# EAGLE library part L1110 (library linkup-l1110)
Link-Up L1110 This part interfaces PCMCIA and CompactFlash cards to Intel StrongARM SA1100/SA1110 CPUs.
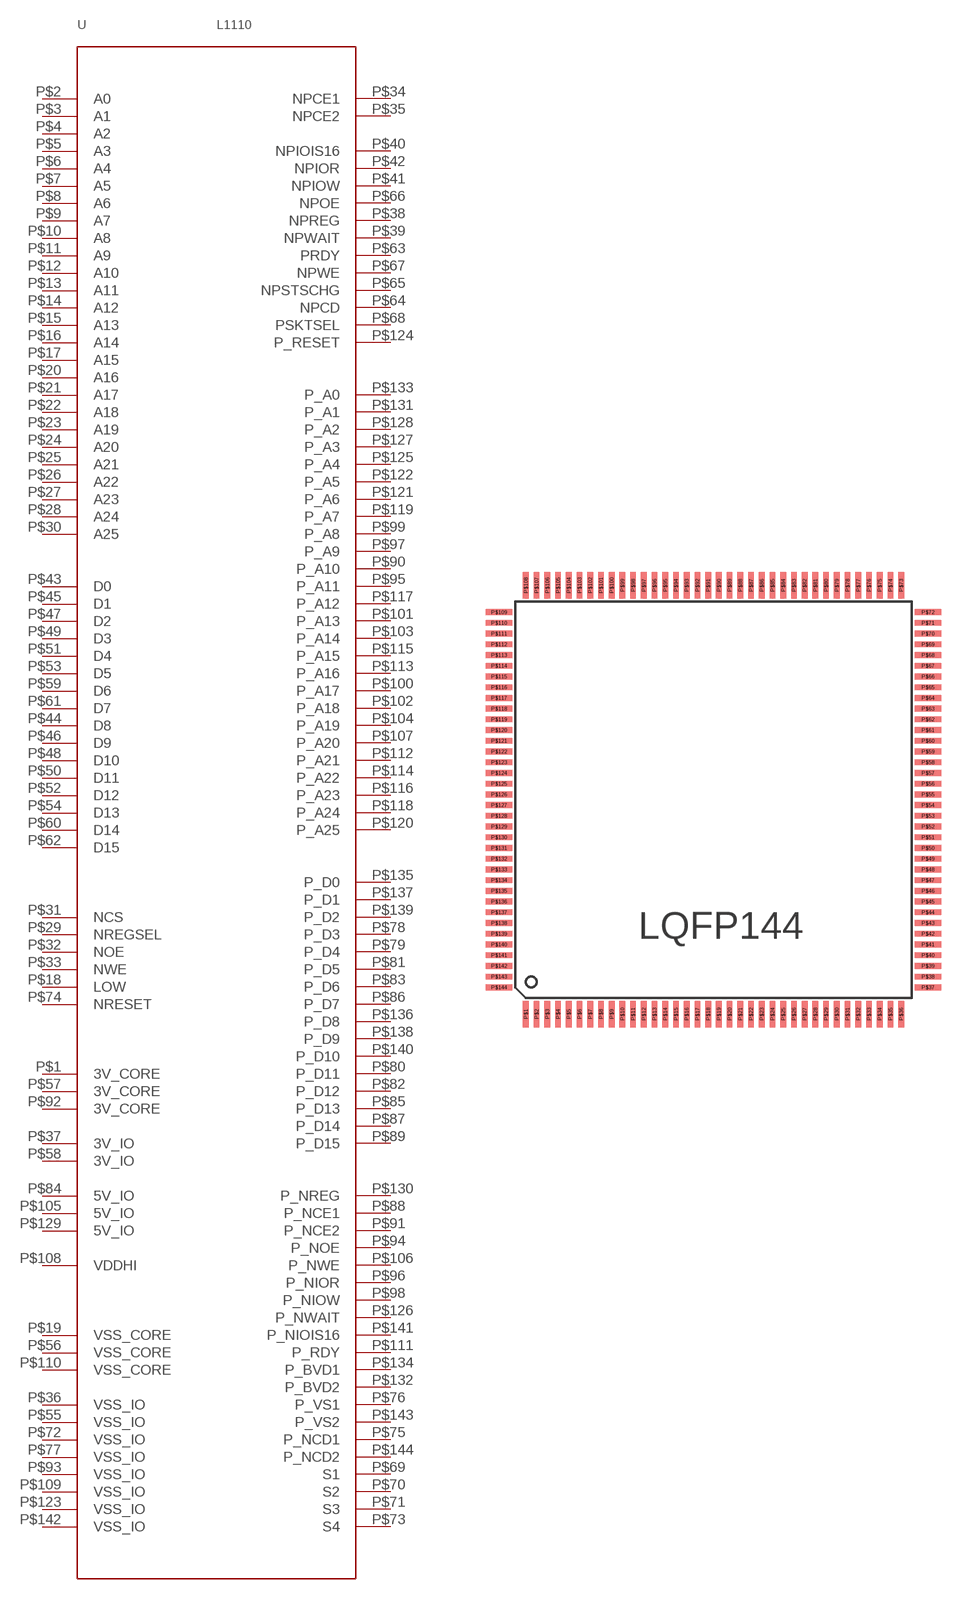
[diagram p0: symbol with the pads of LQFP144; footprint LQFP144]

Designator prefix -

## L1110LQFP144  [LQFP144]
P$1  3V_CORE  pwr
P$2  A0  in
P$3  A1  in
P$4  A2  in
P$5  A3  in
P$6  A4  in
P$7  A5  in
P$8  A6  in
P$9  A7  in
P$10  A8  in
P$11  A9  in
P$12  A10  in
P$13  A11  in
P$14  A12  in
P$15  A13  in
P$16  A14  in
P$17  A15  in
P$18  LOW  in
P$19  VSS_CORE  pwr
P$20  A16  in
P$21  A17  in
P$22  A18  in
P$23  A19  in
P$24  A20  in
P$25  A21  in
P$26  A22  in
P$27  A23  in
P$28  A24  in
P$29  NREGSEL  in
P$30  A25  in
P$31  NCS  in
P$32  NOE  in
P$33  NWE  in
P$34  NPCE1  in
P$35  NPCE2  in
P$36  VSS_IO  pwr
P$37  3V_IO  pwr
P$38  NPREG  in
P$39  NPWAIT  out
P$40  NPIOIS16  out
P$41  NPIOW  in
P$42  NPIOR  in
P$43  D0
P$44  D8
P$45  D1
P$46  D9
P$47  D2
P$48  D10
P$49  D3
P$50  D11
P$51  D4
P$52  D12
P$53  D5
P$54  D13
P$55  VSS_IO  pwr
P$56  VSS_CORE  pwr
P$57  3V_CORE  pwr
P$58  3V_IO  pwr
P$59  D6
P$60  D14
P$61  D7
P$62  D15
P$63  PRDY  out
P$64  NPCD  out
P$65  NPSTSCHG  out
P$66  NPOE  in
P$67  NPWE  in
P$68  PSKTSEL  in
P$69  S1  out
P$70  S2  out
P$71  S3  out
P$72  VSS_IO  pwr
P$73  S4  out
P$74  NRESET  in
P$75  P_NCD1  in
P$76  P_VS1  in
P$77  VSS_IO  pwr
P$78  P_D3
P$79  P_D4
P$80  P_D11
P$81  P_D5
P$82  P_D12
P$83  P_D6
P$84  5V_IO  pwr
P$85  P_D13
P$86  P_D7
P$87  P_D14
P$88  P_NCE1  out
P$89  P_D15
P$90  P_A10  out
P$91  P_NCE2  out
P$92  3V_CORE  pwr
P$93  VSS_IO  pwr
P$94  P_NOE  out
P$95  P_A11  out
P$96  P_NIOR  out
P$97  P_A9  out
P$98  P_NIOW  out
P$99  P_A8  out
P$100  P_A17  out
P$101  P_A13  out
P$102  P_A18  out
P$103  P_A14  out
P$104  P_A19  out
P$105  5V_IO  pwr
P$106  P_NWE  out
P$107  P_A20  out
P$108  VDDHI  pwr
P$109  VSS_IO  pwr
P$110  VSS_CORE  pwr
P$111  P_RDY  in
P$112  P_A21  out
P$113  P_A16  out
P$114  P_A22  out
P$115  P_A15  out
P$116  P_A23  out
P$117  P_A12  out
P$118  P_A24  out
P$119  P_A7  out
P$120  P_A25  out
P$121  P_A6  out
P$122  P_A5  out
P$123  VSS_IO  pwr
P$124  P_RESET  out
P$125  P_A4  out
P$126  P_NWAIT  in
P$127  P_A3  out
P$128  P_A2  out
P$129  5V_IO  pwr
P$130  P_NREG  out
P$131  P_A1  out
P$132  P_BVD2  in
P$133  P_A0  out
P$134  P_BVD1  in
P$135  P_D0
P$136  P_D8
P$137  P_D1
P$138  P_D9
P$139  P_D2
P$140  P_D10
P$141  P_NIOIS16  in
P$142  VSS_IO  pwr
P$143  P_VS2  in
P$144  P_NCD2  in

## Footprint LQFP144 (pad centres in mm)
smd 0.27 x 1.25: P$1 -8.75,-10; P$2 -8.25,-10; P$3 -7.75,-10; P$4 -7.25,-10; P$5 -6.75,-10; P$6 -6.25,-10; P$7 -5.75,-10; P$8 -5.25,-10; P$9 -4.75,-10; P$10 -4.25,-10; P$11 -3.75,-10; P$12 -3.25,-10; P$13 -2.75,-10; P$14 -2.25,-10; P$15 -1.75,-10; P$16 -1.25,-10; P$17 -0.75,-10; P$18 -0.25,-10; P$19 0.25,-10; P$20 0.75,-10; P$21 1.25,-10; P$22 1.75,-10; P$23 2.25,-10; P$24 2.75,-10; P$25 3.25,-10; P$26 3.75,-10; P$27 4.25,-10; P$28 4.75,-10; P$29 5.25,-10; P$30 5.75,-10; P$31 6.25,-10; P$32 6.75,-10; P$33 7.25,-10; P$34 7.75,-10; P$35 8.25,-10; P$36 8.75,-10; P$73 8.75,10; P$74 8.25,10; P$75 7.75,10; P$76 7.25,10; P$77 6.75,10; P$78 6.25,10; P$79 5.75,10; P$80 5.25,10; P$81 4.75,10; P$82 4.25,10; P$83 3.75,10; P$84 3.25,10; P$85 2.75,10; P$86 2.25,10; P$87 1.75,10; P$88 1.25,10; P$89 0.75,10; P$90 0.25,10; P$91 -0.25,10; P$92 -0.75,10; P$93 -1.25,10; P$94 -1.75,10; P$95 -2.25,10; P$96 -2.75,10; P$97 -3.25,10; P$98 -3.75,10; P$99 -4.25,10; P$100 -4.75,10; P$101 -5.25,10; P$102 -5.75,10; P$103 -6.25,10; P$104 -6.75,10; P$105 -7.25,10; P$106 -7.75,10; P$107 -8.25,10; P$108 -8.75,10
smd 1.25 x 0.27: P$37 10,-8.75; P$38 10,-8.25; P$39 10,-7.75; P$40 10,-7.25; P$41 10,-6.75; P$42 10,-6.25; P$43 10,-5.75; P$44 10,-5.25; P$45 10,-4.75; P$46 10,-4.25; P$47 10,-3.75; P$48 10,-3.25; P$49 10,-2.75; P$50 10,-2.25; P$51 10,-1.75; P$52 10,-1.25; P$53 10,-0.75; P$54 10,-0.25; P$55 10,0.25; P$56 10,0.75; P$57 10,1.25; P$58 10,1.75; P$59 10,2.25; P$60 10,2.75; P$61 10,3.25; P$62 10,3.75; P$63 10,4.25; P$64 10,4.75; P$65 10,5.25; P$66 10,5.75; P$67 10,6.25; P$68 10,6.75; P$69 10,7.25; P$70 10,7.75; P$71 10,8.25; P$72 10,8.75; P$109 -10,8.75; P$110 -10,8.25; P$111 -10,7.75; P$112 -10,7.25; P$113 -10,6.75; P$114 -10,6.25; P$115 -10,5.75; P$116 -10,5.25; P$117 -10,4.75; P$118 -10,4.25; P$119 -10,3.75; P$120 -10,3.25; P$121 -10,2.75; P$122 -10,2.25; P$123 -10,1.75; P$124 -10,1.25; P$125 -10,0.75; P$126 -10,0.25; P$127 -10,-0.25; P$128 -10,-0.75; P$129 -10,-1.25; P$130 -10,-1.75; P$131 -10,-2.25; P$132 -10,-2.75; P$133 -10,-3.25; P$134 -10,-3.75; P$135 -10,-4.25; P$136 -10,-4.75; P$137 -10,-5.25; P$138 -10,-5.75; P$139 -10,-6.25; P$140 -10,-6.75; P$141 -10,-7.25; P$142 -10,-7.75; P$143 -10,-8.25; P$144 -10,-8.75